# Altium schematic symbol library ST-214N.SchLib: 1 symbol
Pins are listed as number, name and electrical type; pins without a type are passive.

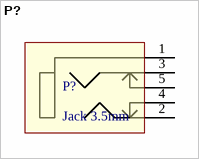
[diagram p0: symbol P?]

## P?
designator P?, comment Jack 3.5mm
footprint P?
pins: 1, 2, 3, 4, 5